# EAGLE library part DIS1417 (library C2500)
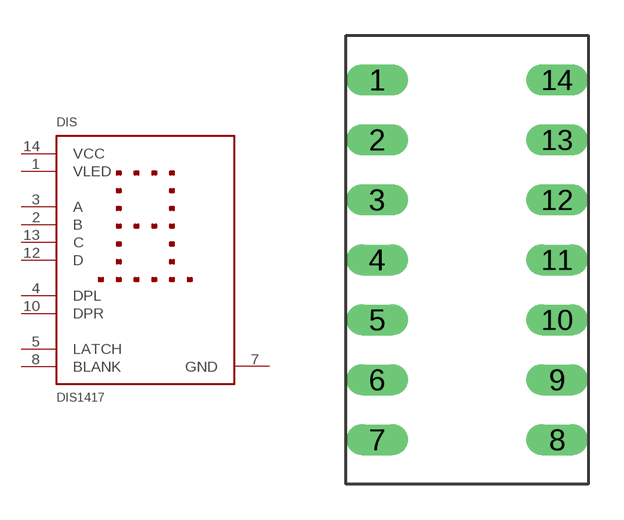
[diagram p1: symbol with the pads of DIS1417; footprint DIS1417]

Designator prefix DIS

## DIS1417  [DIS1417]
1  VLED  pwr
2  B  in
3  A  in
4  DPL  in
5  LATCH  in
7  GND  pwr
8  BLANK  in
10  DPR  in
12  D  in
13  C  in
14  VCC  pwr

## Footprint DIS1417 (pad centres in mm)
drill 0.8 long: 1 -3.81,7.62; 2 -3.81,5.08; 3 -3.81,2.54; 4 -3.81,0; 5 -3.81,-2.54; 6 -3.81,-5.08; 7 -3.81,-7.62; 8 3.81,-7.62; 9 3.81,-5.08; 10 3.81,-2.54; 11 3.81,0; 12 3.81,2.54; 13 3.81,5.08; 14 3.81,7.62